# Altium footprint library Res_Vishay_CRCW06031K00FKEA_eec_IPC_B.PcbLib: 1 footprints
Each footprint in its own frame and in the unit in brackets; x right, y up, seen from the top. Pads: shape width x height; smd on the part's side, far side on the other; paste and mask are expansions set on the pad; w line width, h text height; cw(c..) or ccw(c..) is an arc to the next point about the centre after c.
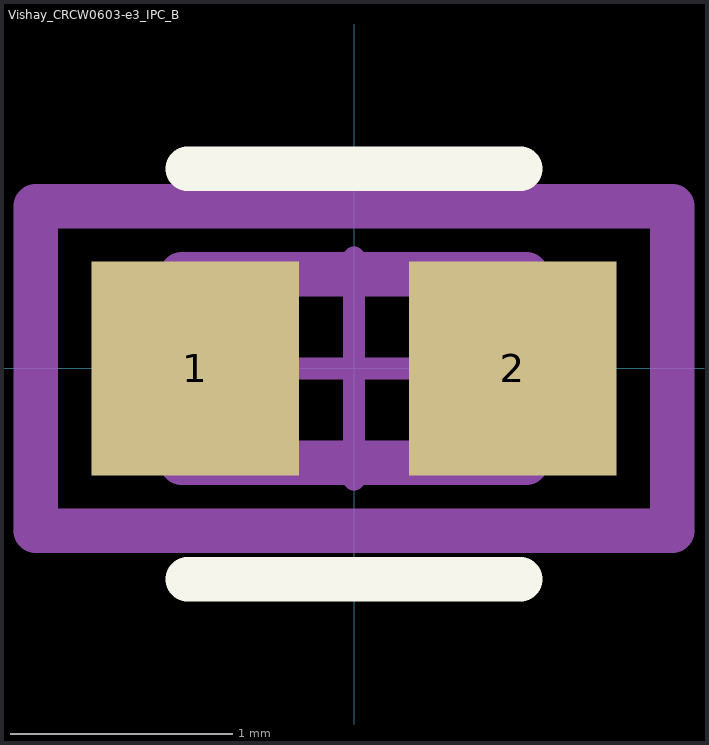
[diagram p0: the footprint, top view; thin cyan lines are the x and y axes]

## Vishay_CRCW0603-e3_IPC_B [mm]
pads (2):
  rect 0.935x0.962 smd paste+0 mask+0: 1(-0.715,0) 2(0.715,0)
Top Overlay:
  lines w0.2: -0.75,-0.95 0.75,-0.95 ; -0.75,0.9 0.75,0.9
Mechanical 10:
  lines w0.2: -1.433,-0.731 1.433,-0.731 1.433,0.731 -1.433,0.731 -1.433,-0.731
  text ".Designator" at 0,0.188 h1
Mechanical 12:
  lines w0.2: -0.775,-0.425 0.775,-0.425 0.775,0.425 -0.775,0.425 -0.775,-0.425
Mechanical 15:
  lines w0.1: -0.5,0 0.5,0 ; 0,-0.5 0,0.5
  lines w0.2: -1.433,-0.731 1.433,-0.731 1.433,0.731 -1.433,0.731 -1.433,-0.731
3D body "Res_Vishay_CRCW06031K00FKEA_eec.STEP": height 0.25, standoff 0, extent -1.433,-0.731 1.433,0.731